# Altium schematic symbol library BM2LC105FJ-CE2.SchLib: 1 symbol
Pins are listed as number, name and electrical type; pins without a type are passive.

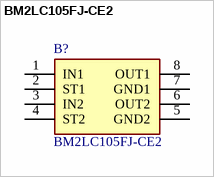
[diagram p0: symbol BM2LC105FJ-CE2]

## BM2LC105FJ-CE2
designator B?
Smart Low Side Switch ICs; Manufacturer_Name: ROHM Semiconductor; Geometry.Height: 1.65mm; Mouser Part Number: 755-BM2LC105FJ-CE2; Mouser Price/Stock: https://www.mouser.co.uk/ProductDetail/ROHM-Semiconductor/BM2LC105FJ-CE2?qs=YCa%2FAAYMW02vvU7sqt7v8g%3D%3D; Manufacturer_Part_Number: BM2LC105FJ-CE2; Datasheet Link: https://www.mouser.de/datasheet/2/348/bxxlc105fj-c-e-1807787.pdf
footprint SOIC127P600X165-8N
pins: 1 IN1, 2 ST1, 3 IN2, 4 ST2, 5 GND2, 6 OUT2, 7 GND1, 8 OUT1